# EAGLE library part 26LS32A (library A-14732-40009)
Quadruple Differential Line Receiver
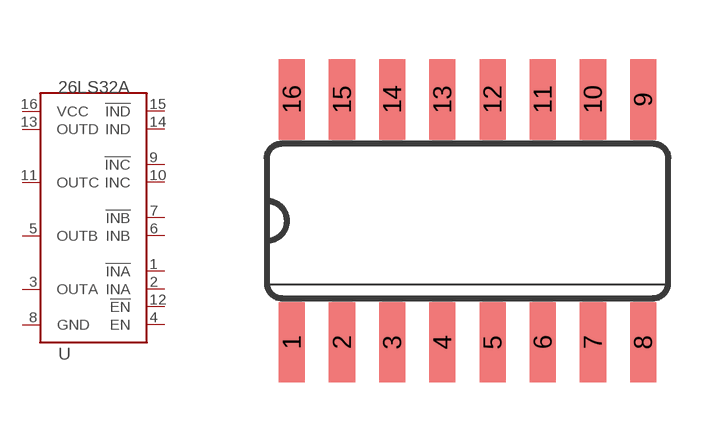
[diagram p10: symbol with the pads of SO16; footprint SO16]

Designator prefix U

## 26LS32A  [SO16]
1  !INA
2  INA
3  OUTA
4  EN
5  OUTB
6  INB
7  !INB
8  GND  pwr
9  !INC
10  INC
11  OUTC
12  !EN
13  OUTD
14  IND
15  !IND
16  VCC  pwr

## Footprint SO16 (pad centres in mm)
Small Outline package 16 pin 150 mil
smd 0.66 x 2.032: 1 -4.445,-3.073; 2 -3.175,-3.073; 3 -1.905,-3.073; 4 -0.635,-3.073; 5 0.635,-3.073; 6 1.905,-3.073; 7 3.175,-3.073; 8 4.445,-3.073; 9 4.445,3.073; 10 3.175,3.073; 11 1.905,3.073; 12 0.635,3.073; 13 -0.635,3.073; 14 -1.905,3.073; 15 -3.175,3.073; 16 -4.445,3.073